# EAGLE library part RC_17PIN_OUTIN (library FaBo-PIN)
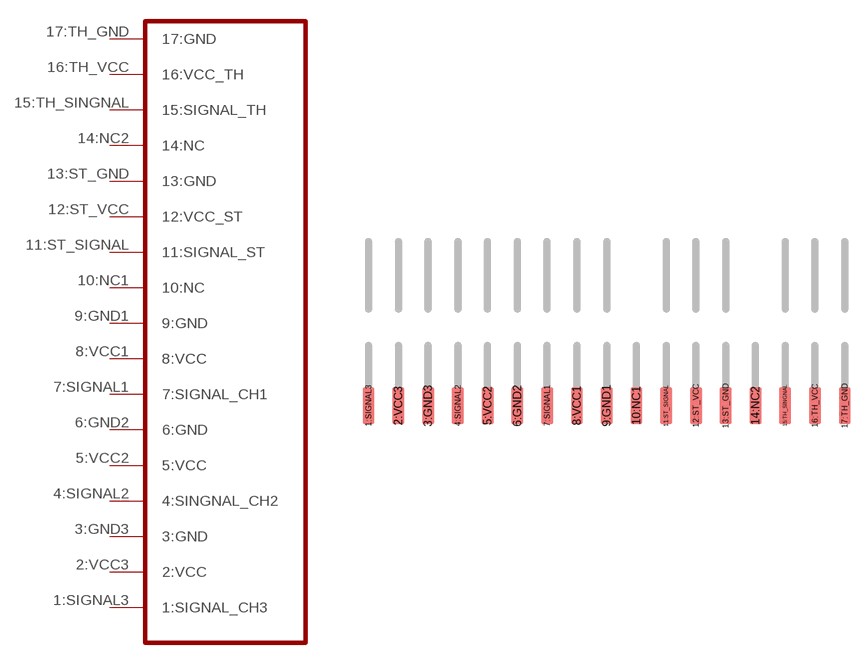
[diagram p30: symbol with the pads of PNHEADER_2.54_SMT_17PIN_RC_TT01_02; footprint PNHEADER_2.54_SMT_17PIN_RC_TT01_02]

Designator prefix -

## RC_17PIN_OUTIN  [PNHEADER_2.54_SMT_17PIN_RC_TT01_02]
1:SIGNAL3  1:SIGNAL_CH3
2:VCC3  2:VCC
3:GND3  3:GND
4:SIGNAL2  4:SINGNAL_CH2
5:VCC2  5:VCC
6:GND2  6:GND
7:SIGNAL1  7:SIGNAL_CH1
8:VCC1  8:VCC
9:GND1  9:GND
10:NC1  10:NC
11:ST_SIGNAL  11:SIGNAL_ST
12:ST_VCC  12:VCC_ST
13:ST_GND  13:GND
14:NC2  14:NC
15:TH_SINGNAL  15:SIGNAL_TH
16:TH_VCC  16:VCC_TH
17:TH_GND  17:GND

## Footprint PNHEADER_2.54_SMT_17PIN_RC_TT01_02 (pad centres in mm)
smd 1.02 x 3.17: 1:SIGNAL3 -20.32,0; 2:VCC3 -17.78,0; 3:GND3 -15.24,0; 4:SIGNAL2 -12.7,0; 5:VCC2 -10.16,0; 6:GND2 -7.62,0; 7:SIGNAL1 -5.08,0; 8:VCC1 -2.54,0; 9:GND1 0,0; 10:NC1 2.54,0; 11:ST_SIGNAL 5.08,0; 12:ST_VCC 7.62,0; 13:ST_GND 10.16,0; 14:NC2 12.7,0; 15:TH_SINGNAL 15.24,0; 16:TH_VCC 17.78,0; 17:TH_GND 20.32,0